# Altium footprint library TQFP.PcbLib: 51 footprints (part 2 of 4)
Each footprint in its own frame and in the unit in brackets; x right, y up, seen from the top. Pads: shape width x height; smd on the part's side, far side on the other; paste and mask are expansions set on the pad; w line width, h text height; cw(c..) or ccw(c..) is an arc to the next point about the centre after c.
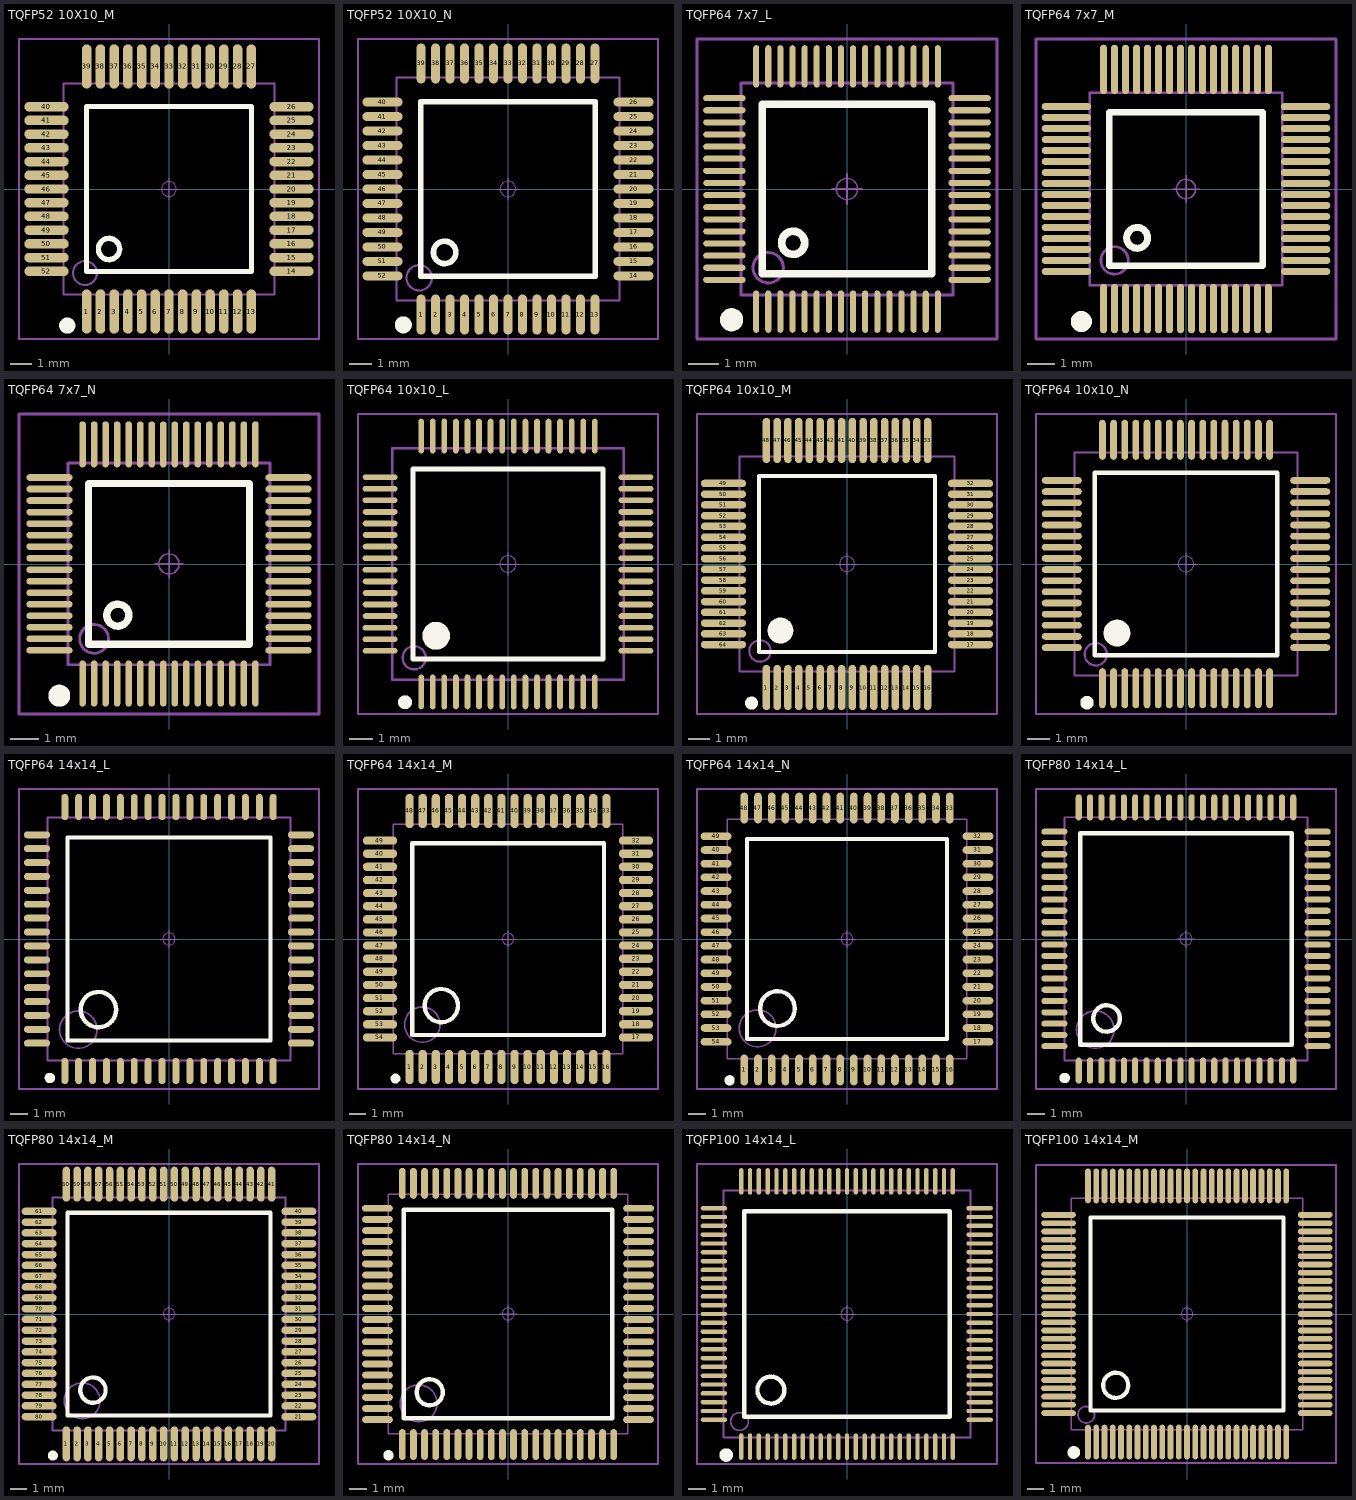
[diagram p1: the footprints below, top view; thin cyan lines are the x and y axes]

## TQFP52 10X10_M [mm] "52脚，体宽：10x10mm, 脚距：0.65mm"
pads (52):
  oval 0.45x2.1 smd: 1(-3.9,-5.81) 2(-3.25,-5.81) 3(-2.6,-5.81) 4(-1.95,-5.81) 5(-1.3,-5.81) 6(-0.65,-5.81) 7(0,-5.81) 8(0.65,-5.81) 9(1.3,-5.81) 10(1.95,-5.81) 11(2.6,-5.81) 12(3.25,-5.81) 13(3.9,-5.81) 27(3.9,5.81) 28(3.25,5.81) 29(2.6,5.81) 30(1.95,5.81) 31(1.3,5.81) 32(0.65,5.81) 33(0,5.81) 34(-0.65,5.81) 35(-1.3,5.81) 36(-1.95,5.81) 37(-2.6,5.81) 38(-3.25,5.81) 39(-3.9,5.81)
  oval 2.1x0.45 smd: 14(5.81,-3.9) 15(5.81,-3.25) 16(5.81,-2.6) 17(5.81,-1.95) 18(5.81,-1.3) 19(5.81,-0.65) 20(5.81,0) 21(5.81,0.65) 22(5.81,1.3) 23(5.81,1.95) 24(5.81,2.6) 25(5.81,3.25) 26(5.81,3.9) 40(-5.81,3.9) 41(-5.81,3.25) 42(-5.81,2.6) 43(-5.81,1.95) 44(-5.81,1.3) 45(-5.81,0.65) 46(-5.81,0) 47(-5.81,-0.65) 48(-5.81,-1.3) 49(-5.81,-1.95) 50(-5.81,-2.6) 51(-5.81,-3.25) 52(-5.81,-3.9)
Top Overlay:
  circle w0.254: c-2.845,-2.845 r0.503
  circle w0.508: c-4.826,-6.477 r0.127
  lines w0.254: -3.912,-3.912 -3.912,3.912 3.912,3.912 3.912,-3.912 -3.912,-3.912
Mechanical 13:
  circle w0.1: c-3.984,-3.984 r0.568
  lines w0.1: -5,-5 5,-5 5,5 -5,5 -5,-5
Mechanical 15:
  circle w0.05: c0,0 r0.35
  lines w0.05: -0.5,0 0.5,0 ; 0,-0.5 0,0.5
  lines w0.1: -7.112,-7.112 -7.112,7.112 7.112,7.112 7.112,-7.112 -7.112,-7.112
3D body: height 1.05, standoff -0.01, extent -6.002,-6.002 6.002,6.002

## TQFP52 10X10_N [mm] "52脚，体宽：10x10mm, 脚距：0.65mm"
pads (52):
  oval 0.4x1.8 smd: 1(-3.9,-5.632) 2(-3.25,-5.632) 3(-2.6,-5.632) 4(-1.95,-5.632) 5(-1.3,-5.632) 6(-0.65,-5.632) 7(0,-5.632) 8(0.65,-5.632) 9(1.3,-5.632) 10(1.95,-5.632) 11(2.6,-5.632) 12(3.25,-5.632) 13(3.9,-5.632) 27(3.9,5.632) 28(3.25,5.632) 29(2.6,5.632) 30(1.95,5.632) 31(1.3,5.632) 32(0.65,5.632) 33(0,5.632) 34(-0.65,5.632) 35(-1.3,5.632) 36(-1.95,5.632) 37(-2.6,5.632) 38(-3.25,5.632) 39(-3.9,5.632)
  oval 1.8x0.4 smd: 14(5.632,-3.9) 15(5.632,-3.25) 16(5.632,-2.6) 17(5.632,-1.95) 18(5.632,-1.3) 19(5.632,-0.65) 20(5.632,0) 21(5.632,0.65) 22(5.632,1.3) 23(5.632,1.95) 24(5.632,2.6) 25(5.632,3.25) 26(5.632,3.9) 40(-5.632,3.9) 41(-5.632,3.25) 42(-5.632,2.6) 43(-5.632,1.95) 44(-5.632,1.3) 45(-5.632,0.65) 46(-5.632,0) 47(-5.632,-0.65) 48(-5.632,-1.3) 49(-5.632,-1.95) 50(-5.632,-2.6) 51(-5.632,-3.25) 52(-5.632,-3.9)
Top Overlay:
  circle w0.508: c-4.699,-6.096 r0.127
  circle w0.254: c-2.845,-2.845 r0.503
  lines w0.254: -3.912,-3.912 3.912,-3.912 3.912,3.912 -3.912,3.912 -3.912,-3.912
Mechanical 13:
  circle w0.1: c-3.984,-3.984 r0.568
  lines w0.1: -5,-5 -5,5 5,5 5,-5 -5,-5
Mechanical 15:
  circle w0.05: c0,0 r0.35
  lines w0.05: -0.5,0 0.5,0 ; 0,-0.5 0,0.5
  lines w0.1: -6.731,-6.731 6.731,-6.731 6.731,6.731 -6.731,6.731 -6.731,-6.731
3D body: height 1.05, standoff -0.01, extent -6.002,-6.002 6.002,6.002

## TQFP64 7x7_L [mm] "64脚，体宽：7x7mm, 脚距：0.4mm"
pads (64):
  oval 0.2x1.4 smd: 1(-3,-4.048) 2(-2.6,-4.048) 3(-2.2,-4.048) 4(-1.8,-4.048) 5(-1.4,-4.048) 6(-1,-4.048) 7(-0.6,-4.048) 8(-0.2,-4.048) 9(0.2,-4.048) 10(0.6,-4.048) 11(1,-4.048) 12(1.4,-4.048) 13(1.8,-4.048) 14(2.2,-4.048) 15(2.6,-4.048) 16(3,-4.048) 33(3,4.048) 34(2.6,4.048) 35(2.2,4.048) 36(1.8,4.048) 37(1.4,4.048) 38(1,4.048) 39(0.6,4.048) 40(0.2,4.048) 41(-0.2,4.048) 42(-0.6,4.048) 43(-1,4.048) 44(-1.4,4.048) 45(-1.8,4.048) 46(-2.2,4.048) 47(-2.6,4.048) 48(-3,4.048)
  oval 1.4x0.2 smd: 17(4.048,-3) 18(4.048,-2.6) 19(4.048,-2.2) 20(4.048,-1.8) 21(4.048,-1.4) 22(4.048,-1) 23(4.048,-0.6) 24(4.048,-0.2) 25(4.048,0.2) 26(4.048,0.6) 27(4.048,1) 28(4.048,1.4) 29(4.048,1.8) 30(4.048,2.2) 31(4.048,2.6) 32(4.048,3) 49(-4.048,3) 50(-4.048,2.6) 51(-4.048,2.2) 52(-4.048,1.8) 53(-4.048,1.4) 54(-4.048,1) 55(-4.048,0.6) 56(-4.048,0.2) 57(-4.048,-0.2) 58(-4.048,-0.6) 59(-4.048,-1) 60(-4.048,-1.4) 61(-4.048,-1.8) 62(-4.048,-2.2) 63(-4.048,-2.6) 64(-4.048,-3)
Top Overlay:
  circle w0.254: c-1.778,-1.778 r0.381
  circle w0.508: c-3.81,-4.318 r0.127
  lines w0.254: -2.794,-2.794 2.794,-2.794 2.794,2.794 -2.794,2.794 -2.794,-2.794
Mechanical 13:
  circle w0.1: c-2.6,-2.6 r0.5
  lines w0.1: -3.5,-3.5 3.5,-3.5 3.5,3.5 -3.5,3.5 -3.5,-3.5
Mechanical 15:
  circle w0.05: c0,0 r0.35
  lines w0.05: -0.5,0 0.5,0 ; 0,-0.5 0,0.5
  lines w0.1: -4.953,-4.953 -4.953,4.953 4.953,4.953 4.953,-4.953 -4.953,-4.953
3D body: height 1.05, standoff 0, extent -4.502,-4.502 4.502,4.502

## TQFP64 7x7_M [mm] "64脚，体宽：7x7mm, 脚距：0.4mm"
pads (64):
  oval 0.26x1.8 smd: 1(-3,-4.352) 2(-2.6,-4.352) 3(-2.2,-4.352) 4(-1.8,-4.352) 5(-1.4,-4.352) 6(-1,-4.352) 7(-0.6,-4.352) 8(-0.2,-4.352) 9(0.2,-4.352) 10(0.6,-4.352) 11(1,-4.352) 12(1.4,-4.352) 13(1.8,-4.352) 14(2.2,-4.352) 15(2.6,-4.352) 16(3,-4.352) 33(3,4.352) 34(2.6,4.352) 35(2.2,4.352) 36(1.8,4.352) 37(1.4,4.352) 38(1,4.352) 39(0.6,4.352) 40(0.2,4.352) 41(-0.2,4.352) 42(-0.6,4.352) 43(-1,4.352) 44(-1.4,4.352) 45(-1.8,4.352) 46(-2.2,4.352) 47(-2.6,4.352) 48(-3,4.352)
  oval 1.8x0.26 smd: 17(4.352,-3) 18(4.352,-2.6) 19(4.352,-2.2) 20(4.352,-1.8) 21(4.352,-1.4) 22(4.352,-1) 23(4.352,-0.6) 24(4.352,-0.2) 25(4.352,0.2) 26(4.352,0.6) 27(4.352,1) 28(4.352,1.4) 29(4.352,1.8) 30(4.352,2.2) 31(4.352,2.6) 32(4.352,3) 49(-4.352,3) 50(-4.352,2.6) 51(-4.352,2.2) 52(-4.352,1.8) 53(-4.352,1.4) 54(-4.352,1) 55(-4.352,0.6) 56(-4.352,0.2) 57(-4.352,-0.2) 58(-4.352,-0.6) 59(-4.352,-1) 60(-4.352,-1.4) 61(-4.352,-1.8) 62(-4.352,-2.2) 63(-4.352,-2.6) 64(-4.352,-3)
Top Overlay:
  circle w0.508: c-3.81,-4.826 r0.127
  circle w0.254: c-1.778,-1.778 r0.381
  lines w0.254: -2.794,-2.794 -2.794,2.794 2.794,2.794 2.794,-2.794 -2.794,-2.794
Mechanical 13:
  circle w0.1: c-2.6,-2.6 r0.5
  lines w0.1: -3.5,-3.5 -3.5,3.5 3.5,3.5 3.5,-3.5 -3.5,-3.5
Mechanical 15:
  circle w0.05: c0,0 r0.35
  lines w0.05: -0.5,0 0.5,0 ; 0,-0.5 0,0.5
  lines w0.1: -5.461,-5.461 5.461,-5.461 5.461,5.461 -5.461,5.461 -5.461,-5.461
3D body: height 1.05, standoff 0, extent -4.502,-4.502 4.502,4.502

## TQFP64 7x7_N [mm] "64脚，体宽：7x7mm, 脚距：0.4mm"
pads (64):
  oval 0.23x1.6 smd: 1(-3,-4.146) 2(-2.6,-4.146) 3(-2.2,-4.146) 4(-1.8,-4.146) 5(-1.4,-4.146) 6(-1,-4.146) 7(-0.6,-4.146) 8(-0.2,-4.146) 9(0.2,-4.146) 10(0.6,-4.146) 11(1,-4.146) 12(1.4,-4.146) 13(1.8,-4.146) 14(2.2,-4.146) 15(2.6,-4.146) 16(3,-4.146) 33(3,4.152) 34(2.6,4.152) 35(2.2,4.152) 36(1.8,4.152) 37(1.4,4.152) 38(1,4.152) 39(0.6,4.152) 40(0.2,4.152) 41(-0.2,4.152) 42(-0.6,4.152) 43(-1,4.152) 44(-1.4,4.152) 45(-1.8,4.152) 46(-2.2,4.152) 47(-2.6,4.152) 48(-3,4.152)
  oval 1.6x0.23 smd: 17(4.149,-2.997) 18(4.149,-2.597) 19(4.149,-2.197) 20(4.149,-1.797) 21(4.149,-1.397) 22(4.149,-0.997) 23(4.149,-0.597) 24(4.149,-0.197) 25(4.149,0.203) 26(4.149,0.603) 27(4.149,1.003) 28(4.149,1.403) 29(4.149,1.803) 30(4.149,2.203) 31(4.149,2.603) 32(4.149,3.003) 49(-4.149,3.003) 50(-4.149,2.603) 51(-4.149,2.203) 52(-4.149,1.803) 53(-4.149,1.403) 54(-4.149,1.003) 55(-4.149,0.603) 56(-4.149,0.203) 57(-4.149,-0.197) 58(-4.149,-0.597) 59(-4.149,-0.997) 60(-4.149,-1.397) 61(-4.149,-1.797) 62(-4.149,-2.197) 63(-4.149,-2.597) 64(-4.149,-2.997)
Top Overlay:
  circle w0.508: c-3.81,-4.572 r0.127
  circle w0.254: c-1.778,-1.775 r0.381
  lines w0.254: -2.794,-2.791 -2.794,2.797 2.794,2.797 2.794,-2.791 -2.794,-2.791
Mechanical 13:
  circle w0.1: c-2.6,-2.597 r0.5
  lines w0.1: -3.5,-3.497 -3.5,3.503 3.5,3.503 3.5,-3.497 -3.5,-3.497
Mechanical 15:
  circle w0.05: c0,0.003 r0.35
  lines w0.05: -0.5,0.003 0.5,0.003 ; 0,-0.497 0,0.503
  lines w0.1: -5.207,-5.207 5.207,-5.207 5.207,5.207 -5.207,5.207 -5.207,-5.207
3D body: height 1.05, standoff 0, extent -4.502,-4.499 4.502,4.505

## TQFP64 10x10_L [mm] "64脚，体宽：10x10mm, 脚距：0.5mm"
pads (64):
  oval 0.25x1.5 smd: 1(-3.75,-5.523) 2(-3.25,-5.523) 3(-2.75,-5.523) 4(-2.25,-5.523) 5(-1.75,-5.523) 6(-1.25,-5.523) 7(-0.75,-5.523) 8(-0.25,-5.523) 9(0.25,-5.523) 10(0.75,-5.523) 11(1.25,-5.523) 12(1.75,-5.523) 13(2.25,-5.523) 14(2.75,-5.523) 15(3.25,-5.523) 16(3.75,-5.523) 33(3.75,5.523) 34(3.25,5.523) 35(2.75,5.523) 36(2.25,5.523) 37(1.75,5.523) 38(1.25,5.523) 39(0.75,5.523) 40(0.25,5.523) 41(-0.25,5.523) 42(-0.75,5.523) 43(-1.25,5.523) 44(-1.75,5.523) 45(-2.25,5.523) 46(-2.75,5.523) 47(-3.25,5.523) 48(-3.75,5.523)
  oval 1.5x0.25 smd: 17(5.523,-3.75) 18(5.523,-3.25) 19(5.523,-2.75) 20(5.523,-2.25) 21(5.523,-1.75) 22(5.523,-1.25) 23(5.523,-0.75) 24(5.523,-0.25) 25(5.523,0.25) 26(5.523,0.75) 27(5.523,1.25) 28(5.523,1.75) 29(5.523,2.25) 30(5.523,2.75) 31(5.523,3.25) 32(5.523,3.75) 49(-5.523,3.75) 50(-5.523,3.25) 51(-5.523,2.75) 52(-5.523,2.25) 53(-5.523,1.75) 54(-5.523,1.25) 55(-5.523,0.75) 56(-5.523,0.25) 57(-5.523,-0.25) 58(-5.523,-0.75) 59(-5.523,-1.25) 60(-5.523,-1.75) 61(-5.523,-2.25) 62(-5.523,-2.75) 63(-5.523,-3.25) 64(-5.523,-3.75)
Top Overlay:
  circle w0.6: c-3.1,-3.1 r0.3
  circle w0.35: c-4.445,-5.969 r0.125
  lines w0.2: -4.1,-4.1 -4.1,4.1 4.1,4.1 4.1,-4.1 -4.1,-4.1
Mechanical 13:
  circle w0.1: c-4.05,-4.05 r0.5
  lines w0.1: -5,-5 -5,5 5,5 5,-5 -5,-5
Mechanical 15:
  circle w0.05: c0,0 r0.35
  lines w0.05: -0.5,0 0.5,0 ; 0,-0.5 0,0.5
  lines w0.1: -6.477,-6.477 -6.477,6.477 6.477,6.477 6.477,-6.477 -6.477,-6.477
3D body: height 1.05, standoff -0.01, extent -5.997,-6.002 6.008,6.002

## TQFP64 10x10_M [mm] "64脚，体宽：10x10mm, 脚距：0.5mm"
pads (64):
  oval 0.35x2.1 smd: 1(-3.75,-5.752) 2(-3.25,-5.752) 3(-2.75,-5.752) 4(-2.25,-5.752) 5(-1.75,-5.752) 6(-1.25,-5.752) 7(-0.75,-5.752) 8(-0.25,-5.752) 9(0.25,-5.752) 10(0.75,-5.752) 11(1.25,-5.752) 12(1.75,-5.752) 13(2.25,-5.752) 14(2.75,-5.752) 15(3.25,-5.752) 16(3.75,-5.752) 33(3.75,5.752) 34(3.25,5.752) 35(2.75,5.752) 36(2.25,5.752) 37(1.75,5.752) 38(1.25,5.752) 39(0.75,5.752) 40(0.25,5.752) 41(-0.25,5.752) 42(-0.75,5.752) 43(-1.25,5.752) 44(-1.75,5.752) 45(-2.25,5.752) 46(-2.75,5.752) 47(-3.25,5.752) 48(-3.75,5.752)
  oval 2.1x0.35 smd: 17(5.752,-3.75) 18(5.752,-3.25) 19(5.752,-2.75) 20(5.752,-2.25) 21(5.752,-1.75) 22(5.752,-1.25) 23(5.752,-0.75) 24(5.752,-0.25) 25(5.752,0.25) 26(5.752,0.75) 27(5.752,1.25) 28(5.752,1.75) 29(5.752,2.25) 30(5.752,2.75) 31(5.752,3.25) 32(5.752,3.75) 49(-5.752,3.75) 50(-5.752,3.25) 51(-5.752,2.75) 52(-5.752,2.25) 53(-5.752,1.75) 54(-5.752,1.25) 55(-5.752,0.75) 56(-5.752,0.25) 57(-5.752,-0.25) 58(-5.752,-0.75) 59(-5.752,-1.25) 60(-5.752,-1.75) 61(-5.752,-2.25) 62(-5.752,-2.75) 63(-5.752,-3.25) 64(-5.752,-3.75)
Top Overlay:
  circle w0.35: c-4.445,-6.477 r0.125
  circle w0.6: c-3.1,-3.1 r0.3
  lines w0.2: -4.1,-4.1 4.1,-4.1 4.1,4.1 -4.1,4.1 -4.1,-4.1
Mechanical 13:
  circle w0.1: c-4.05,-4.05 r0.5
  lines w0.1: -5,-5 5,-5 5,5 -5,5 -5,-5
Mechanical 15:
  circle w0.05: c0,0 r0.35
  lines w0.05: -0.5,0 0.5,0 ; 0,-0.5 0,0.5
  lines w0.1: -6.985,-6.985 6.985,-6.985 6.985,6.985 -6.985,6.985 -6.985,-6.985
3D body: height 1.05, standoff -0.01, extent -5.997,-6.002 6.008,6.002

## TQFP64 10x10_N [mm] "64脚，体宽：10x10mm, 脚距：0.5mm"
pads (64):
  oval 0.3x1.8 smd: 1(-3.75,-5.574) 2(-3.25,-5.574) 3(-2.75,-5.574) 4(-2.25,-5.574) 5(-1.75,-5.574) 6(-1.25,-5.574) 7(-0.75,-5.574) 8(-0.25,-5.574) 9(0.25,-5.574) 10(0.75,-5.574) 11(1.25,-5.574) 12(1.75,-5.574) 13(2.25,-5.574) 14(2.75,-5.574) 15(3.25,-5.574) 16(3.75,-5.574) 33(3.75,5.574) 34(3.25,5.574) 35(2.75,5.574) 36(2.25,5.574) 37(1.75,5.574) 38(1.25,5.574) 39(0.75,5.574) 40(0.25,5.574) 41(-0.25,5.574) 42(-0.75,5.574) 43(-1.25,5.574) 44(-1.75,5.574) 45(-2.25,5.574) 46(-2.75,5.574) 47(-3.25,5.574) 48(-3.75,5.574)
  oval 1.8x0.3 smd: 17(5.574,-3.75) 18(5.574,-3.25) 19(5.574,-2.75) 20(5.574,-2.25) 21(5.574,-1.75) 22(5.574,-1.25) 23(5.574,-0.75) 24(5.574,-0.25) 25(5.574,0.25) 26(5.574,0.75) 27(5.574,1.25) 28(5.574,1.75) 29(5.574,2.25) 30(5.574,2.75) 31(5.574,3.25) 32(5.574,3.75) 49(-5.574,3.75) 50(-5.574,3.25) 51(-5.574,2.75) 52(-5.574,2.25) 53(-5.574,1.75) 54(-5.574,1.25) 55(-5.574,0.75) 56(-5.574,0.25) 57(-5.574,-0.25) 58(-5.574,-0.75) 59(-5.574,-1.25) 60(-5.574,-1.75) 61(-5.574,-2.25) 62(-5.574,-2.75) 63(-5.574,-3.25) 64(-5.574,-3.75)
Top Overlay:
  circle w0.35: c-4.445,-6.223 r0.125
  circle w0.6: c-3.1,-3.1 r0.3
  lines w0.2: -4.1,-4.1 4.1,-4.1 4.1,4.1 -4.1,4.1 -4.1,-4.1
Mechanical 13:
  circle w0.1: c-4.05,-4.05 r0.5
  lines w0.1: -5,-5 5,-5 5,5 -5,5 -5,-5
Mechanical 15:
  circle w0.05: c0,0 r0.35
  lines w0.05: -0.5,0 0.5,0 ; 0,-0.5 0,0.5
  lines w0.1: -6.731,-6.731 6.731,-6.731 6.731,6.731 -6.731,6.731 -6.731,-6.731
3D body: height 1.05, standoff -0.01, extent -5.997,-6.002 6.008,6.002

## TQFP64 14x14_L [mm] "64脚，体宽：14x14mm, 脚距：0.8mm"
pads (64):
  oval 0.4x1.5 smd: 1(-6,-7.6) 2(-5.2,-7.6) 3(-4.4,-7.6) 4(-3.6,-7.6) 5(-2.8,-7.6) 6(-2,-7.6) 7(-1.2,-7.6) 8(-0.4,-7.6) 9(0.4,-7.6) 10(1.2,-7.6) 11(2,-7.6) 12(2.8,-7.6) 13(3.6,-7.6) 14(4.4,-7.6) 15(5.2,-7.6) 16(6,-7.6) 33(6,7.6) 34(5.2,7.6) 35(4.4,7.6) 36(3.6,7.6) 37(2.8,7.6) 38(2,7.6) 39(1.2,7.6) 40(0.4,7.6) 41(-0.4,7.6) 42(-1.2,7.6) 43(-2,7.6) 44(-2.8,7.6) 45(-3.6,7.6) 46(-4.4,7.6) 47(-5.2,7.6) 48(-6,7.6)
  oval 1.5x0.4 smd: 17(7.6,-6) 18(7.6,-5.2) 19(7.6,-4.4) 20(7.6,-3.6) 21(7.6,-2.8) 22(7.6,-2) 23(7.6,-1.2) 24(7.6,-0.4) 25(7.6,0.4) 26(7.6,1.2) 27(7.6,2) 28(7.6,2.8) 29(7.6,3.6) 30(7.6,4.4) 31(7.6,5.2) 32(7.6,6) 40(-7.6,5.2) 41(-7.6,4.4) 42(-7.6,3.6) 43(-7.6,2.8) 44(-7.6,2) 45(-7.6,1.2) 46(-7.6,0.4) 47(-7.6,-0.4) 48(-7.6,-1.2) 49(-7.6,-2) 49(-7.6,6) 50(-7.6,-2.8) 51(-7.6,-3.6) 52(-7.6,-4.4) 53(-7.6,-5.2) 54(-7.6,-6)
Top Overlay:
  circle w0.35: c-6.856,-8.001 r0.125
  circle w0.254: c-4.064,-4.064 r1.016
  lines w0.254: -5.842,-5.842 5.842,-5.842 5.842,5.842 -5.842,5.842 -5.842,-5.842
Mechanical 13:
  circle w0.1: c-5.222,-5.222 r1.078
  lines w0.1: -7,-7 -7,7 7,7 7,-7 -7,-7
Mechanical 15:
  circle w0.05: c0,0 r0.35
  lines w0.05: -0.5,0 0.5,0 ; 0,-0.5 0,0.5
  lines w0.1: -8.636,-8.636 8.636,-8.636 8.636,8.636 -8.636,8.636 -8.636,-8.636
3D body: height 1.05, standoff -0.01, extent -8.002,-8.002 8.002,8.002

## TQFP64 14x14_M [mm] "64脚，体宽：14x14mm, 脚距：0.8mm"
pads (64):
  oval 0.5x2.1 smd: 1(-6,-7.803) 2(-5.2,-7.803) 3(-4.4,-7.803) 4(-3.6,-7.803) 5(-2.8,-7.803) 6(-2,-7.803) 7(-1.2,-7.803) 8(-0.4,-7.803) 9(0.4,-7.803) 10(1.2,-7.803) 11(2,-7.803) 12(2.8,-7.803) 13(3.6,-7.803) 14(4.4,-7.803) 15(5.2,-7.803) 16(6,-7.803) 33(6,7.803) 34(5.2,7.803) 35(4.4,7.803) 36(3.6,7.803) 37(2.8,7.803) 38(2,7.803) 39(1.2,7.803) 40(0.4,7.803) 41(-0.4,7.803) 42(-1.2,7.803) 43(-2,7.803) 44(-2.8,7.803) 45(-3.6,7.803) 46(-4.4,7.803) 47(-5.2,7.803) 48(-6,7.803)
  oval 2.1x0.5 smd: 17(7.803,-6) 18(7.803,-5.2) 19(7.803,-4.4) 20(7.803,-3.6) 21(7.803,-2.8) 22(7.803,-2) 23(7.803,-1.2) 24(7.803,-0.4) 25(7.803,0.4) 26(7.803,1.2) 27(7.803,2) 28(7.803,2.8) 29(7.803,3.6) 30(7.803,4.4) 31(7.803,5.2) 32(7.803,6) 40(-7.803,5.2) 41(-7.803,4.4) 42(-7.803,3.6) 43(-7.803,2.8) 44(-7.803,2) 45(-7.803,1.2) 46(-7.803,0.4) 47(-7.803,-0.4) 48(-7.803,-1.2) 49(-7.803,-2) 49(-7.803,6) 50(-7.803,-2.8) 51(-7.803,-3.6) 52(-7.803,-4.4) 53(-7.803,-5.2) 54(-7.803,-6)
Top Overlay:
  circle w0.254: c-4.064,-4.064 r1.016
  circle w0.35: c-6.858,-8.509 r0.125
  lines w0.254: -5.842,-5.842 -5.842,5.842 5.842,5.842 5.842,-5.842 -5.842,-5.842
Mechanical 13:
  circle w0.1: c-5.222,-5.222 r1.078
  lines w0.1: -7,-7 7,-7 7,7 -7,7 -7,-7
Mechanical 15:
  circle w0.05: c0,0 r0.35
  lines w0.05: -0.5,0 0.5,0 ; 0,-0.5 0,0.5
  lines w0.1: -9.144,-9.144 -9.144,9.144 9.144,9.144 9.144,-9.144 -9.144,-9.144
3D body: height 1.05, standoff -0.01, extent -8.002,-8.002 8.002,8.002

## TQFP64 14x14_N [mm] "64脚，体宽：14x14mm, 脚距：0.8mm"
pads (64):
  oval 0.45x1.8 smd: 1(-6,-7.651) 2(-5.2,-7.651) 3(-4.4,-7.651) 4(-3.6,-7.651) 5(-2.8,-7.651) 6(-2,-7.651) 7(-1.2,-7.651) 8(-0.4,-7.651) 9(0.4,-7.651) 10(1.2,-7.651) 11(2,-7.651) 12(2.8,-7.651) 13(3.6,-7.651) 14(4.4,-7.651) 15(5.2,-7.651) 16(6,-7.651) 33(6,7.651) 34(5.2,7.651) 35(4.4,7.651) 36(3.6,7.651) 37(2.8,7.651) 38(2,7.651) 39(1.2,7.651) 40(0.4,7.651) 41(-0.4,7.651) 42(-1.2,7.651) 43(-2,7.651) 44(-2.8,7.651) 45(-3.6,7.651) 46(-4.4,7.651) 47(-5.2,7.651) 48(-6,7.651)
  oval 1.8x0.45 smd: 17(7.651,-6) 18(7.651,-5.2) 19(7.651,-4.4) 20(7.651,-3.6) 21(7.651,-2.8) 22(7.651,-2) 23(7.651,-1.2) 24(7.651,-0.4) 25(7.651,0.4) 26(7.651,1.2) 27(7.651,2) 28(7.651,2.8) 29(7.651,3.6) 30(7.651,4.4) 31(7.651,5.2) 32(7.651,6) 40(-7.651,5.2) 41(-7.651,4.4) 42(-7.651,3.6) 43(-7.651,2.8) 44(-7.651,2) 45(-7.651,1.2) 46(-7.651,0.4) 47(-7.651,-0.4) 48(-7.651,-1.2) 49(-7.651,-2) 49(-7.651,6) 50(-7.651,-2.8) 51(-7.651,-3.6) 52(-7.651,-4.4) 53(-7.651,-5.2) 54(-7.651,-6)
Top Overlay:
  circle w0.35: c-6.858,-8.255 r0.125
  circle w0.254: c-4.064,-4.064 r1.016
  lines w0.254: -5.842,-5.842 5.842,-5.842 5.842,5.842 -5.842,5.842 -5.842,-5.842
Mechanical 13:
  circle w0.1: c-5.222,-5.222 r1.078
  lines w0.1: -7,-7 -7,7 7,7 7,-7 -7,-7
Mechanical 15:
  circle w0.05: c0,0 r0.35
  lines w0.05: -0.5,0 0.5,0 ; 0,-0.5 0,0.5
  lines w0.1: -8.763,-8.763 8.763,-8.763 8.763,8.763 -8.763,8.763 -8.763,-8.763
3D body: height 1.05, standoff -0.01, extent -8.002,-8.002 8.002,8.002

## TQFP80 14x14_L [mm] "80脚，体宽：14x14mm, 脚距：0.65mm"
pads (80):
  oval 0.35x1.5 smd: 1(-6.175,-7.574) 2(-5.525,-7.574) 3(-4.875,-7.574) 4(-4.225,-7.574) 5(-3.575,-7.574) 6(-2.925,-7.574) 7(-2.275,-7.574) 8(-1.625,-7.574) 9(-0.975,-7.574) 10(-0.325,-7.574) 11(0.325,-7.574) 12(0.975,-7.574) 13(1.625,-7.574) 14(2.275,-7.574) 15(2.925,-7.574) 16(3.575,-7.574) 17(4.225,-7.574) 18(4.875,-7.574) 19(5.525,-7.574) 20(6.175,-7.574) 41(6.175,7.579) 42(5.525,7.579) 43(4.875,7.579) 44(4.225,7.579) 45(3.575,7.579) 46(2.925,7.579) 47(2.275,7.579) 48(1.625,7.579) 49(0.975,7.579) 50(0.325,7.579) 51(-0.325,7.579) 52(-0.975,7.579) 53(-1.625,7.579) 54(-2.275,7.579) 55(-2.925,7.579) 56(-3.575,7.579) 57(-4.225,7.579) 58(-4.875,7.579) 59(-5.525,7.579) 60(-6.175,7.579)
  oval 1.5x0.35 smd: 21(7.577,-6.172) 22(7.577,-5.522) 23(7.577,-4.872) 24(7.577,-4.222) 25(7.577,-3.572) 26(7.577,-2.922) 27(7.577,-2.272) 28(7.577,-1.622) 29(7.577,-0.972) 30(7.577,-0.322) 31(7.577,0.328) 32(7.577,0.978) 33(7.577,1.628) 34(7.577,2.278) 35(7.577,2.928) 36(7.577,3.578) 37(7.577,4.228) 38(7.577,4.878) 39(7.577,5.528) 40(7.577,6.178) 61(-7.577,6.178) 62(-7.577,5.528) 63(-7.577,4.878) 64(-7.577,4.228) 65(-7.577,3.578) 66(-7.577,2.928) 67(-7.577,2.278) 68(-7.577,1.628) 69(-7.577,0.978) 70(-7.577,0.328) 71(-7.577,-0.322) 72(-7.577,-0.972) 73(-7.577,-1.622) 74(-7.577,-2.272) 75(-7.577,-2.922) 76(-7.577,-3.572) 77(-7.577,-4.222) 78(-7.577,-4.872) 79(-7.577,-5.522) 80(-7.577,-6.172)
Top Overlay:
  circle w0.254: c-4.572,-4.572 r0.762
  circle w0.35: c-6.983,-8.001 r0.125
  lines w0.254: -6.096,-6.096 -6.096,6.096 6.096,6.096 6.096,-6.096 -6.096,-6.096
Mechanical 13:
  circle w0.1: c-5.222,-5.219 r1.078
  lines w0.1: -7,-6.997 7,-6.997 7,7.003 -7,7.003 -7,-6.997
Mechanical 15:
  circle w0.05: c0,0.003 r0.35
  lines w0.05: -0.5,0.003 0.5,0.003 ; 0,-0.497 0,0.503
  lines w0.1: -8.636,-8.636 -8.636,8.636 8.636,8.636 8.636,-8.636 -8.636,-8.636
3D body: height 1.05, standoff -0.01, extent -8.002,-7.999 8.002,8.005

## TQFP80 14x14_M [mm] "80脚，体宽：14x14mm, 脚距：0.65mm"
pads (80):
  oval 0.45x2.1 smd: 1(-6.175,-7.805) 2(-5.525,-7.805) 3(-4.875,-7.805) 4(-4.225,-7.805) 5(-3.575,-7.805) 6(-2.925,-7.805) 7(-2.275,-7.805) 8(-1.625,-7.805) 9(-0.975,-7.805) 10(-0.325,-7.805) 11(0.325,-7.805) 12(0.975,-7.805) 13(1.625,-7.805) 14(2.275,-7.805) 15(2.925,-7.805) 16(3.575,-7.805) 17(4.225,-7.805) 18(4.875,-7.805) 19(5.525,-7.805) 20(6.175,-7.805) 41(6.175,7.805) 42(5.525,7.805) 43(4.875,7.805) 44(4.225,7.805) 45(3.575,7.805) 46(2.925,7.805) 47(2.275,7.805) 48(1.625,7.805) 49(0.975,7.805) 50(0.325,7.805) 51(-0.325,7.805) 52(-0.975,7.805) 53(-1.625,7.805) 54(-2.275,7.805) 55(-2.925,7.805) 56(-3.575,7.805) 57(-4.225,7.805) 58(-4.875,7.805) 59(-5.525,7.805) 60(-6.175,7.805)
  oval 2.1x0.45 smd: 21(7.805,-6.175) 22(7.805,-5.525) 23(7.805,-4.875) 24(7.805,-4.225) 25(7.805,-3.575) 26(7.805,-2.925) 27(7.805,-2.275) 28(7.805,-1.625) 29(7.805,-0.975) 30(7.805,-0.325) 31(7.805,0.325) 32(7.805,0.975) 33(7.805,1.625) 34(7.805,2.275) 35(7.805,2.925) 36(7.805,3.575) 37(7.805,4.225) 38(7.805,4.875) 39(7.805,5.525) 40(7.805,6.175) 61(-7.805,6.175) 62(-7.805,5.525) 63(-7.805,4.875) 64(-7.805,4.225) 65(-7.805,3.575) 66(-7.805,2.925) 67(-7.805,2.275) 68(-7.805,1.625) 69(-7.805,0.975) 70(-7.805,0.325) 71(-7.805,-0.325) 72(-7.805,-0.975) 73(-7.805,-1.625) 74(-7.805,-2.275) 75(-7.805,-2.925) 76(-7.805,-3.575) 77(-7.805,-4.225) 78(-7.805,-4.875) 79(-7.805,-5.525) 80(-7.805,-6.175)
Top Overlay:
  circle w0.254: c-4.572,-4.575 r0.762
  circle w0.35: c-6.985,-8.509 r0.125
  lines w0.254: -6.096,-6.099 -6.096,6.093 6.096,6.093 6.096,-6.099 -6.096,-6.099
Mechanical 13:
  circle w0.1: c-5.222,-5.222 r1.078
  lines w0.1: -7,-7 7,-7 7,7 -7,7 -7,-7
Mechanical 15:
  circle w0.05: c0,0 r0.35
  lines w0.05: -0.5,0 0.5,0 ; 0,-0.5 0,0.5
  lines w0.1: -9.017,-9.017 -9.017,9.017 9.017,9.017 9.017,-9.017 -9.017,-9.017
3D body: height 1.05, standoff -0.01, extent -8.002,-8.002 8.002,8.002

## TQFP80 14x14_N [mm] "80脚，体宽：14x14mm, 脚距：0.65mm"
pads (80):
  oval 0.4x1.8 smd: 1(-6.175,-7.625) 2(-5.525,-7.625) 3(-4.875,-7.625) 4(-4.225,-7.625) 5(-3.575,-7.625) 6(-2.925,-7.625) 7(-2.275,-7.625) 8(-1.625,-7.625) 9(-0.975,-7.625) 10(-0.325,-7.625) 11(0.325,-7.625) 12(0.975,-7.625) 13(1.625,-7.625) 14(2.275,-7.625) 15(2.925,-7.625) 16(3.575,-7.625) 17(4.225,-7.625) 18(4.875,-7.625) 19(5.525,-7.625) 20(6.175,-7.625) 41(6.175,7.63) 42(5.525,7.63) 43(4.875,7.63) 44(4.225,7.63) 45(3.575,7.63) 46(2.925,7.63) 47(2.275,7.63) 48(1.625,7.63) 49(0.975,7.63) 50(0.325,7.63) 51(-0.325,7.63) 52(-0.975,7.63) 53(-1.625,7.63) 54(-2.275,7.63) 55(-2.925,7.63) 56(-3.575,7.63) 57(-4.225,7.63) 58(-4.875,7.63) 59(-5.525,7.63) 60(-6.175,7.63)
  oval 1.8x0.4 smd: 21(7.627,-6.172) 22(7.627,-5.522) 23(7.627,-4.872) 24(7.627,-4.222) 25(7.627,-3.572) 26(7.627,-2.922) 27(7.627,-2.272) 28(7.627,-1.622) 29(7.627,-0.972) 30(7.627,-0.322) 31(7.627,0.328) 32(7.627,0.978) 33(7.627,1.628) 34(7.627,2.278) 35(7.627,2.928) 36(7.627,3.578) 37(7.627,4.228) 38(7.627,4.878) 39(7.627,5.528) 40(7.627,6.178) 61(-7.627,6.178) 62(-7.627,5.528) 63(-7.627,4.878) 64(-7.627,4.228) 65(-7.627,3.578) 66(-7.627,2.928) 67(-7.627,2.278) 68(-7.627,1.628) 69(-7.627,0.978) 70(-7.627,0.328) 71(-7.627,-0.322) 72(-7.627,-0.972) 73(-7.627,-1.622) 74(-7.627,-2.272) 75(-7.627,-2.922) 76(-7.627,-3.572) 77(-7.627,-4.222) 78(-7.627,-4.872) 79(-7.627,-5.522) 80(-7.627,-6.172)
Top Overlay:
  circle w0.254: c-4.572,-4.572 r0.762
  circle w0.35: c-6.985,-8.255 r0.125
  lines w0.254: -6.096,-6.096 -6.096,6.096 6.096,6.096 6.096,-6.096 -6.096,-6.096
Mechanical 13:
  circle w0.1: c-5.222,-5.219 r1.078
  lines w0.1: -7,-6.997 7,-6.997 7,7.003 -7,7.003 -7,-6.997
Mechanical 15:
  circle w0.05: c0,0.003 r0.35
  lines w0.05: -0.5,0.003 0.5,0.003 ; 0,-0.497 0,0.503
  lines w0.1: -8.763,-8.763 -8.763,8.763 8.763,8.763 8.763,-8.763 -8.763,-8.763
3D body: height 1.05, standoff -0.01, extent -8.002,-7.999 8.002,8.005

## TQFP100 14x14_L [mm] "100脚，体宽：14x14mm, 脚距：0.5mm"
pads (100):
  oval 0.25x1.5 smd: 1(-6,-7.524) 2(-5.5,-7.524) 3(-5,-7.524) 4(-4.5,-7.524) 5(-4,-7.524) 6(-3.5,-7.524) 7(-3,-7.524) 8(-2.5,-7.524) 9(-2,-7.524) 10(-1.5,-7.524) 11(-1,-7.524) 12(-0.5,-7.524) 13(0,-7.524) 14(0.5,-7.524) 15(1,-7.524) 16(1.5,-7.524) 17(2,-7.524) 18(2.5,-7.524) 19(3,-7.524) 20(3.5,-7.524) 21(4,-7.524) 22(4.5,-7.524) 23(5,-7.524) 24(5.5,-7.524) 25(6,-7.524) 51(6,7.524) 52(5.5,7.524) 53(5,7.524) 54(4.5,7.524) 55(4,7.524) 56(3.5,7.524) 57(3,7.524) 58(2.5,7.524) 59(2,7.524) 60(1.5,7.524) 61(1,7.524) 62(0.5,7.524) 63(0,7.524) 64(-0.5,7.524) 65(-1,7.524) 66(-1.5,7.524) 67(-2,7.524) 68(-2.5,7.524) 69(-3,7.524) 70(-3.5,7.524) 71(-4,7.524) 72(-4.5,7.524) 73(-5,7.524) 74(-5.5,7.524) 75(-6,7.524)
  oval 1.5x0.25 smd: 26(7.524,-6) 27(7.524,-5.5) 28(7.524,-5) 29(7.524,-4.5) 30(7.524,-4) 31(7.524,-3.5) 32(7.524,-3) 33(7.524,-2.5) 34(7.524,-2) 35(7.524,-1.5) 36(7.524,-1) 37(7.524,-0.5) 38(7.524,0) 39(7.524,0.5) 40(7.524,1) 41(7.524,1.5) 42(7.524,2) 43(7.524,2.5) 44(7.524,3) 45(7.524,3.5) 46(7.524,4) 47(7.524,4.5) 48(7.524,5) 49(7.524,5.5) 50(7.524,6) 76(-7.549,6) 77(-7.549,5.5) 78(-7.549,5) 79(-7.549,4.5) 80(-7.549,4) 81(-7.549,3.5) 82(-7.549,3) 83(-7.549,2.5) 84(-7.549,2) 85(-7.549,1.5) 86(-7.549,1) 87(-7.549,0.5) 88(-7.549,0) 89(-7.549,-0.5) 90(-7.549,-1) 91(-7.549,-1.5) 92(-7.549,-2) 93(-7.549,-2.5) 94(-7.549,-3) 95(-7.549,-3.5) 96(-7.549,-4) 97(-7.549,-4.5) 98(-7.549,-5) 99(-7.549,-5.5) 100(-7.549,-6)
Top Overlay:
  circle w0.254: c-4.318,-4.318 r0.762
  circle w0.508: c-6.858,-8.001 r0.127
  lines w0.254: -5.842,-5.842 5.842,-5.842 5.842,5.842 -5.842,5.842 -5.842,-5.842
Mechanical 13:
  circle w0.1: c-6.1,-6.1 r0.5
  lines w0.1: -7,-7 7,-7 7,7 -7,7 -7,-7
Mechanical 15:
  circle w0.05: c0,0 r0.35
  lines w0.05: -0.5,0 0.5,0 ; 0,-0.5 0,0.5
  lines w0.1: -8.509,-8.509 8.509,-8.509 8.509,8.509 -8.509,8.509 -8.509,-8.509
3D body: height 1.05, standoff -0.01, extent -8.002,-8.002 8.002,8.002

## TQFP100 14x14_M [mm] "100脚，体宽：14x14mm, 脚距：0.5mm"
pads (100):
  oval 0.35x2.1 smd: 1(-6,-7.752) 2(-5.5,-7.752) 3(-5,-7.752) 4(-4.5,-7.752) 5(-4,-7.752) 6(-3.5,-7.752) 7(-3,-7.752) 8(-2.5,-7.752) 9(-2,-7.752) 10(-1.5,-7.752) 11(-1,-7.752) 12(-0.5,-7.752) 13(0,-7.752) 14(0.5,-7.752) 15(1,-7.752) 16(1.5,-7.752) 17(2,-7.752) 18(2.5,-7.752) 19(3,-7.752) 20(3.5,-7.752) 21(4,-7.752) 22(4.5,-7.752) 23(5,-7.752) 24(5.5,-7.752) 25(6,-7.752) 51(6,7.752) 52(5.5,7.752) 53(5,7.752) 54(4.5,7.752) 55(4,7.752) 56(3.5,7.752) 57(3,7.752) 58(2.5,7.752) 59(2,7.752) 60(1.5,7.752) 61(1,7.752) 62(0.5,7.752) 63(0,7.752) 64(-0.5,7.752) 65(-1,7.752) 66(-1.5,7.752) 67(-2,7.752) 68(-2.5,7.752) 69(-3,7.752) 70(-3.5,7.752) 71(-4,7.752) 72(-4.5,7.752) 73(-5,7.752) 74(-5.5,7.752) 75(-6,7.752)
  oval 2.1x0.35 smd: 26(7.752,-6) 27(7.752,-5.5) 28(7.752,-5) 29(7.752,-4.5) 30(7.752,-4) 31(7.752,-3.5) 32(7.752,-3) 33(7.752,-2.5) 34(7.752,-2) 35(7.752,-1.5) 36(7.752,-1) 37(7.752,-0.5) 38(7.752,0) 39(7.752,0.5) 40(7.752,1) 41(7.752,1.5) 42(7.752,2) 43(7.752,2.5) 44(7.752,3) 45(7.752,3.5) 46(7.752,4) 47(7.752,4.5) 48(7.752,5) 49(7.752,5.5) 50(7.752,6) 76(-7.778,6) 77(-7.778,5.5) 78(-7.778,5) 79(-7.778,4.5) 80(-7.778,4) 81(-7.778,3.5) 82(-7.778,3) 83(-7.778,2.5) 84(-7.778,2) 85(-7.778,1.5) 86(-7.778,1) 87(-7.778,0.5) 88(-7.778,0) 89(-7.778,-0.5) 90(-7.778,-1) 91(-7.778,-1.5) 92(-7.778,-2) 93(-7.778,-2.5) 94(-7.778,-3) 95(-7.778,-3.5) 96(-7.778,-4) 97(-7.778,-4.5) 98(-7.778,-5) 99(-7.778,-5.5) 100(-7.778,-6)
Top Overlay:
  circle w0.508: c-6.858,-8.382 r0.127
  circle w0.254: c-4.318,-4.318 r0.762
  lines w0.254: -5.842,-5.842 -5.842,5.842 5.842,5.842 5.842,-5.842 -5.842,-5.842
Mechanical 13:
  circle w0.1: c-6.1,-6.1 r0.5
  lines w0.1: -7,-7 -7,7 7,7 7,-7 -7,-7
Mechanical 15:
  circle w0.05: c0,0 r0.35
  lines w0.05: -0.5,0 0.5,0 ; 0,-0.5 0,0.5
  lines w0.1: -9.144,-9.017 -9.144,9.017 9.017,9.017 9.017,-9.017 -9.144,-9.017
3D body: height 1.05, standoff -0.01, extent -8.002,-8.002 8.002,8.002